# Altium schematic symbol library HamedLib.SchLib: 116 symbols
Pins are listed as number, name and electrical type; pins without a type are passive.

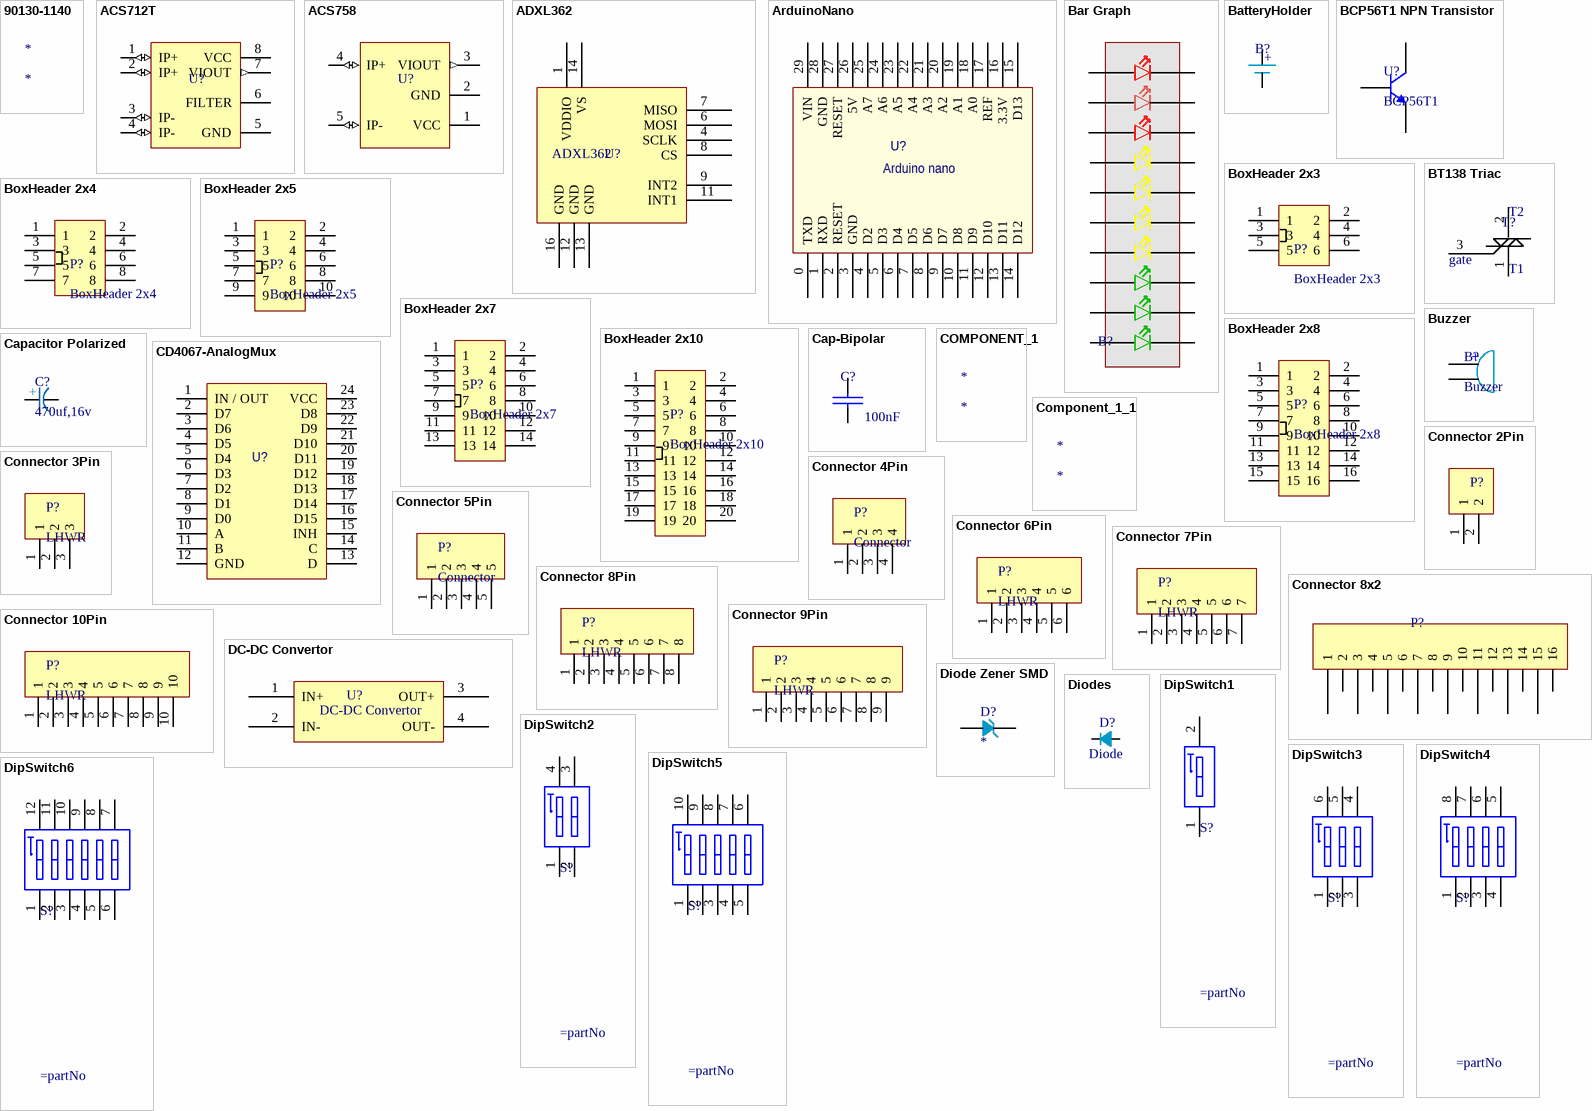
[diagram p0: symbols 90130-1140 to DipSwitch6]

## 90130-1140
designator *
Board Connector, 40 Contact(s), 2 Row(s), Male, Straight, 0.1 inch Pitch, Solder Terminal, Locking, Black Insulator, Receptacle; Manufacturer: Molex; Manufacturer Part Number: 90130-1140; Manufacturer Series: 90130; Option: General Purpose; Filter Feature: No; Number of Contacts: 40; Contact Pattern: RECTANGULAR; Dielectric Withstanding Voltage (AC): 700V; Insulation Resistance: 5GR; Number Of Connectors: 1; Number Of PCB Rows: 2; Rated Current (Signal): 3A; Contact Resistance: 20mR; Durability: 500Cycles; Contact Style: SQ PIN-SKT; Insertion Force-Max: 3.0024N; Body Breadth: 0.384inch; Body Depth: 0.515inch; PCB Contact Row Spacing: 2.54mm; Plating Thickness: 118uin; Body Length: 2.092inch; Reference Standard: UL; Reliability: COMMERCIAL; Supplier: Mouser; Supplier Part Number: 538-90130-1140; RoHS: Yes; Category: Headers and Wire Housings; Stock: 1491; Pricing: 1=3.06, 10=2.61, 50=2.28, 100=2.28, 1000=2.28, 10000=2.28 (USD); Mounting Technology: Board; Contact Finish - Mating: NOT SPECIFIED; Contact Material: Copper Alloy; Insulation Material: Glass; Insulation Color: Black; Min Operating Temperature: -55°C; Max Operating Temperature: 125°C; Connector Type: BOARD CONNECTOR; Contact Gender: Male; Mixed Contacts: No; Termination: Solder; Mounting Style: STRAIGHT; Number of Rows Loaded: 2; PCB Contact Pattern: RECTANGULAR; Body/Shell Style: RECEPTACLE; Mating Contact Pitch: 0.1inch; Terminal Pitch: 2.54mm; Mounting Option 1: LOCKING; Mating Contact Row Spacing: 0.1inch; Terminal Length: 0.114inch; Flammability Rating: UL94 V-0; DIN Conformance: No; IEC Conformance: No; MIL Conformance: No; Reach SVHC Compliant: Yes; RoHS Compliant: Yes; ComponentLink1URL: https://datasheet.ciiva.com:443/pdfs/VipMasterIC/IC/MOLE/MOLE-S-A0001360181/MOLE-S-A0001366101-1.pdf?src-supplier=IHS+Markit; ComponentLink1Description: https://datasheet.ciiva.com:443/pdfs/VipMasterIC/IC/MOLE/MOLE-S-A0001360181/MOLE-S-A0001366101-1.pdf?src-supplier=IHS+Markit; ComponentLink2URL: https://datasheet.ciiva.com/712/901301108-sd-712105.pdf?src-supplier=Digikey; ComponentLink2Description: https://datasheet.ciiva.com/712/901301108-sd-712105.pdf?src-supplier=Digikey; ComponentLink3URL: https://datasheet.ciiva.com/5155/0901301140-pcb-headers-151559-5155813.pdf?src-supplier=Mouser; ComponentLink3Description: https://datasheet.ciiva.com/5155/0901301140-pcb-headers-151559-5155813.pdf?src-supplier=Mouser; ComponentLink4URL: https://datasheet.ciiva.com/11752/0900766b80d6024d-11752755.pdf?src-supplier=Rs; ComponentLink4Description: https://datasheet.ciiva.com/11752/0900766b80d6024d-11752755.pdf?src-supplier=Rs; ComponentLink5URL: https://datasheet.ciiva.com/30129/0901301140-pcb-headers-30129574.pdf?src-supplier=Onlinecomponents.com; ComponentLink5Description: https://datasheet.ciiva.com/30129/0901301140-pcb-headers-30129574.pdf?src-supplier=Onlinecomponents.com; ComponentLink6URL: https://datasheet.ciiva.com/10072/0901301140-pcb-headers-10072277.pdf?src-supplier=Avnet; ComponentLink6Description: https://datasheet.ciiva.com/10072/0901301140-pcb-headers-10072277.pdf?src-supplier=Avnet

## ACS712T
designator U?  (value not drawn)
High-Precision Bidirectional Current sensor; Designer:: Hamed Jafarzadeh
footprint SOIC-8
pins: 1 IP+ (io) "Terminals for current being sampled; fused internally", 2 IP+ (io) "Terminals for current being sampled; fused internally", 3 IP- (io) "Terminals for current being sampled; fused internally", 4 IP- (io) "Terminals for current being sampled; fused internally", 5 GND (power) "Signal ground terminal", 6 FILTER "Terminal for external capacitor that sets bandwidth", 7 VIOUT (out) "Analog output signal", 8 VCC (power) "Device power supply terminal"

## ACS758
designator U?  (value not drawn)
High-Precision Bidirectional Current sensor; Designer:: Hamed Jafarzadeh
footprint ACS758
pins: 1 VCC (power) "Device power supply terminal", 2 GND (power) "Signal ground terminal", 3 VIOUT (out) "Analog output signal", 4 IP+ (io) "Terminals for current being sampled; fused internally", 5 IP- (io) "Terminals for current being sampled; fused internally"

## ADXL362
designator U?  (value not drawn)
footprint ADXL362
pins: 1 VDDIO, 4 SCLK, 6 MOSI, 7 MISO, 8 CS, 9 INT2, 11 INT1, 12 GND, 13 GND, 14 VS, 16 GND

## ArduinoNano
designator U?  (value not drawn)
footprint ArduinoNano
pins: 0 TXD, 1 RXD, 2 RESET, 3 GND, 4 D2, 5 D3, 6 D4, 7 D5, 8 D6, 9 D7, 10 D8, 11 D9, 12 D10, 13 D11, 14 D12, 15 D13, 16 3.3V, 17 REF, 18 A0, 19 A1, 20 A2, 21 A3, 22 A4, 23 A5, 24 A6, 25 A7, 26 5V, 27 RESET, 28 GND, 29 VIN
text: Arduino nano

## Bar Graph
designator B?  (value not drawn)
Designer: Farhoosh-Co.ir
footprint BarGraph (Bar Grph LED)
pins: 1, 2, 3, 4, 5, 6, 7, 8, 9, 10, 11, 12, 13, 14, 15, 16, 17, 18, 19, 20

## BatteryHolder
designator B?  (value not drawn)
footprint Battery Holder 2032
footprint Battery Holder CR1220-SMD
pins: 1, 2
text: +

## BCP56T1 NPN Transistor
designator U?, comment BCP56T1
footprint BCP56T1-SOT223
pins: 1 B, 2 C, 3 E

## BoxHeader 2x3
designator P?
Designer: HamedJafarzadeh - ww.R2T.ir
footprint Box Header 2x3
pins: 1, 2, 3, 4, 5, 6

## BoxHeader 2x4
designator P?
Designer: HamedJafarzadeh - ww.R2T.ir
footprint Box Header 2x4
pins: 1, 2, 3, 4, 5, 6, 7, 8

## BoxHeader 2x5
designator P?
Designer: HamedJafarzadeh - ww.R2T.ir
footprint Box Header 2x5
pins: 1, 2, 3, 4, 5, 6, 7, 8, 9, 10

## BoxHeader 2x7
designator P?
Designer: HamedJafarzadeh - ww.R2T.ir
footprint Box Header 2x7
pins: 1, 2, 3, 4, 5, 6, 7, 8, 9, 10, 11, 12, 13, 14

## BoxHeader 2x8
designator P?
Designer: HamedJafarzadeh - ww.R2T.ir
footprint Box Header 2x8
pins: 1, 2, 3, 4, 5, 6, 7, 8, 9, 10, 11, 12, 13, 14, 15, 16

## BoxHeader 2x10
designator P?
Designer: HamedJafarzadeh - ww.R2T.ir
footprint Box Header 2x10
pins: 1, 2, 3, 4, 5, 6, 7, 8, 9, 10, 11, 12, 13, 14, 15, 16, 17, 18, 19, 20

## BT138 Triac
designator T?  (value not drawn)
footprint BT138
pins: 1 T1, 2 T2, 3 GND
text: gate

## Buzzer
designator B?
Designer: Hamed Jafarzadeh
footprint Buzzer (Magnetic Transducer)
pins: 1 VCC, 2 GND
text: +

## Cap-Bipolar
designator C?, comment 100nF
Bipolar Capacitor; Voltage: 100V; Designer: Saeid Jorablo; Organazation: ControTec; Adding Date: 1387/12/20; Value: 100nF
footprint SMD_CAP_0603
footprint SMD_CAP_0805
footprint SMD_CAP_1206
pins: 1 +, 2 -

## Capacitor Polarized
designator C?, comment 470uf,16v
Designer: Hamed Jafarzadeh
footprint Electrolytic Capacitor SMD Dia-8 (470uf,6.3v,16v)
footprint Electrolytic Capacitor SMD Dia-8 - 100uf (100uf,6.3v,16v)
footprint Electrolytic Capacitor (5Rx5.3 - SMD C)
footprint Tantalum Cap Size D - 2917 (Tantalum 10uf,35v)
footprint Tantalum Cap Size A - 1206
footprint Tantalum Cap Size C - 2312
footprint Tantalum CAP Size E - 2917
footprint Tantalum Cap Size B - 1210
footprint WCAP-PSHP 8x7.7x3.1 (Polarized capacitors, Aluminum Polymer Capacitors, 2-Leads, Body 8x7.7x3.1)
footprint WCAP-PSHP 8x8.7x3.1 (Polarized capacitors, Aluminum Polymer Capacitors, 2-Leads, Body 8x8.7x3.1)
footprint WCAP-PSHP 10x8.7x4.5 (Polarized capacitors, Aluminum Polymer Capacitors, 2-Leads, Body 10x8.7x4.5)
footprint WCAP-PSHP 10x10.5x4.5 (Polarized capacitors, Aluminum Polymer Capacitors, 2-Leads, Body 10x10.5x4.5)
footprint CAPE R2.25 Flat
footprint CAPE R3.5
footprint CAPE R3.5 Flat
footprint CAPE R5.0
footprint CAPE R16.00 HV
footprint CAPE R18.00 HV
footprint CAP ALSMD 5.3MM H5.4MM (Aluminum Electrolytic Capacitor, Body 5.30x5.30x5.40mm, IPC Low Density)
pins: 1, 2
text: +

## CD4067-AnalogMux
designator U?  (value not drawn)
footprint CD474HC4067
footprint SOP65P640X120-24N
pins: 1 IN / OUT, 2 D7, 3 D6, 4 D5, 5 D4, 6 D3, 7 D2, 8 D1, 9 D0, 10 A, 11 B, 12 GND, 13 D, 14 C, 15 INH, 16 D15, 17 D14, 18 D13, 19 D12, 20 D11, 21 D10, 22 D9, 23 D8, 24 VCC

## COMPONENT_1
designator *

## Component_1_1
designator *

## Connector 2Pin
designator P?, comment Connector  (value not drawn)
Designer:: Hamed Jafarzadeh - www.R2T.ir
footprint Polarized Header 2
footprint Terminal Block 2pin
footprint Phoenix 2pin ST (-)
footprint PH Connector 2Pin
footprint KF350-2p (-)
pins: 1, 2

## Connector 3Pin
designator P?, comment LHWR
Designer:: Hamed Jafarzadeh - www.R2T.ir
footprint Polarized Header 3
footprint Terminal Block 3Pin
footprint Phoenix 3pin ST (-)
footprint PH Connector 3Pin
footprint KF350-3p (-)
pins: 1, 2, 3

## Connector 4Pin
designator P?, comment Connector
Designer:: Hamed Jafarzadeh - www.R2T.ir
footprint Polarized Header 4
footprint Phoenix 4pin ST (-)
footprint PH 4A Connector
pins: 1, 2, 3, 4

## Connector 5Pin
designator P?, comment Connector
Designer:: Hamed Jafarzadeh - www.R2T.ir
footprint Polarized Header 5
footprint Phoenix 5pin ST (-)
footprint PH Connector 5Pin
pins: 1, 2, 3, 4, 5

## Connector 6Pin
designator P?, comment LHWR
Designer:: Hamed Jafarzadeh - www.R2T.ir
footprint Polarized Header 6
footprint PH Connector 6Pin
pins: 1, 2, 3, 4, 5, 6

## Connector 7Pin
designator P?, comment LHWR
Designer:: Hamed Jafarzadeh - www.R2T.ir
footprint Polarized Header 7
footprint PH Connector 7Pin
pins: 1, 2, 3, 4, 5, 6, 7

## Connector 8Pin
designator P?, comment LHWR
Designer:: Hamed Jafarzadeh - www.R2T.ir
footprint PH Connector 8Pin (Male Vertical Shrouded Header - 08p 1 row)
footprint Phoenix 8 Pin ST (-)
pins: 1, 2, 3, 4, 5, 6, 7, 8

## Connector 8x2
designator P?  (value not drawn)
footprint Connector ATX 16pin 4.2MM Pitch
pins: 1, 2, 3, 4, 5, 6, 7, 8, 9, 10, 11, 12, 13, 14, 15, 16

## Connector 9Pin
designator P?, comment LHWR
Designer:: Hamed Jafarzadeh - www.R2T.ir
footprint PH Connector 9Pin (Male Vertical Shrouded Header - 09p 1 row)
pins: 1, 2, 3, 4, 5, 6, 7, 8, 9

## Connector 10Pin
designator P?, comment LHWR
Designer:: Hamed Jafarzadeh - www.R2T.ir
footprint PH Connector 10Pin (Male Vertical Shrouded Header - 10p 1 row)
pins: 1, 2, 3, 4, 5, 6, 7, 8, 9, 10

## DC-DC Convertor
designator U?  (value not drawn)
footprint DC-DC 12A
pins: 1 IN+, 2 IN-, 3 OUT+, 4 OUT-

## Diode Zener SMD
designator D?
Designer: Hamed Jafarzadeh
footprint DIOMELF3615N (MELF Diode, 2-Leads, Body 3.6x1.5mm, IPC Medium Density)
footprint Diode Zener 1W SMD-SOD106 (MELF Diode, 2-Leads, Body 3.6x1.5mm, IPC Medium Density)
pins: 1, 2

## Diodes
designator D?  Description:: Diode  (hidden comment: *)
Designer :: Hamed Jafarzadeh
footprint DO-214AC ( SMD Diode )
footprint SMB-CASE 403-A03 (Molded Diode,MURS120T)
footprint DO-201 (1n5822 Through Hole)
footprint DO-201 Vertical (1n5822 Through Hole)
pins: 0, 1

## DipSwitch1
designator S?
WS-DITV 2.54 mm compact THT with flat actuator; Manufacturer: Wurth Elektronik; Part No.: 418117170901; ComponentLink1 Description: Manufacturer; ComponentLink2 Description: Datasheet; Pole: 01; Created Date: Dec.2015; ComponentLink1URL: http://www.we-online.com; ComponentLink2URL: http://katalog.we-online.de/em/datasheet/4181171709xx.pdf; Created by: Baojun Chen
footprint 418117170901 (01p, 2.54mm Pitch, Horizontal, Box Type, THT, flat Actuator, red, without Tape, Tube)
pins: 1, 2

## DipSwitch2
designator S?
WS-DITV 2.54 mm compact THT with flat actuator; Manufacturer: Wurth Elektronik; Part No.: 418117170902; ComponentLink1 Description: Manufacturer; ComponentLink2 Description: Datasheet; Pole: 02; Created Date: Dec.2015; ComponentLink1URL: http://www.we-online.com; ComponentLink2URL: http://katalog.we-online.de/em/datasheet/4181171709xx.pdf; Created by: Baojun Chen
footprint 418117170902 (02p, 2.54mm Pitch, Horizontal, Box Type, THT, flat Actuator, red, without Tape, Tube)
pins: 1, 2, 3, 4

## DipSwitch3
designator S?
WS-DITV 2.54 mm compact THT with flat actuator; Manufacturer: Wurth Elektronik; Part No.: 418117170903; ComponentLink1 Description: Manufacturer; ComponentLink2 Description: Datasheet; Pole: 03; Created Date: Dec.2015; ComponentLink1URL: http://www.we-online.com; ComponentLink2URL: http://katalog.we-online.de/em/datasheet/4181171709xx.pdf; Created by: Baojun Chen
footprint 418117170903 (03p, 2.54mm Pitch, Horizontal, Box Type, THT, flat Actuator, red, without Tape, Tube)
pins: 1, 2, 3, 4, 5, 6

## DipSwitch4
designator S?
WS-DITV 2.54 mm compact THT with flat actuator; Manufacturer: Wurth Elektronik; Part No.: 418117170904; ComponentLink1 Description: Manufacturer; ComponentLink2 Description: Datasheet; Pole: 04; Created Date: Dec.2015; ComponentLink1URL: http://www.we-online.com; ComponentLink2URL: http://katalog.we-online.de/em/datasheet/4181171709xx.pdf; Created by: Baojun Chen
footprint 418117170904 (04p, 2.54mm Pitch, Horizontal, Box Type, THT, flat Actuator, red, without Tape, Tube)
pins: 1, 2, 3, 4, 5, 6, 7, 8

## DipSwitch5
designator S?
WS-DITV 2.54 mm compact THT with flat actuator; Manufacturer: Wurth Elektronik; Part No.: 418117170905; ComponentLink1 Description: Manufacturer; ComponentLink2 Description: Datasheet; Pole: 05; Created Date: Dec.2015; ComponentLink1URL: http://www.we-online.com; ComponentLink2URL: http://katalog.we-online.de/em/datasheet/4181171709xx.pdf; Created by: Baojun Chen
footprint 418117170905 (05p, 2.54mm Pitch, Horizontal, Box Type, THT, flat Actuator, red, without Tape, Tube)
pins: 1, 2, 3, 4, 5, 6, 7, 8, 9, 10

## DipSwitch6
designator S?
WS-DITV 2.54 mm compact THT with flat actuator; Manufacturer: Wurth Elektronik; Part No.: 418117170906; ComponentLink1 Description: Manufacturer; ComponentLink2 Description: Datasheet; Pole: 06; Created Date: Dec.2015; ComponentLink1URL: http://www.we-online.com; ComponentLink2URL: http://katalog.we-online.de/em/datasheet/4181171709xx.pdf; Created by: Baojun Chen
footprint 418117170906 (06p, 2.54mm Pitch, Horizontal, Box Type, THT, flat Actuator, red, without Tape, Tube)
pins: 1, 2, 3, 4, 5, 6, 7, 8, 9, 10, 11, 12

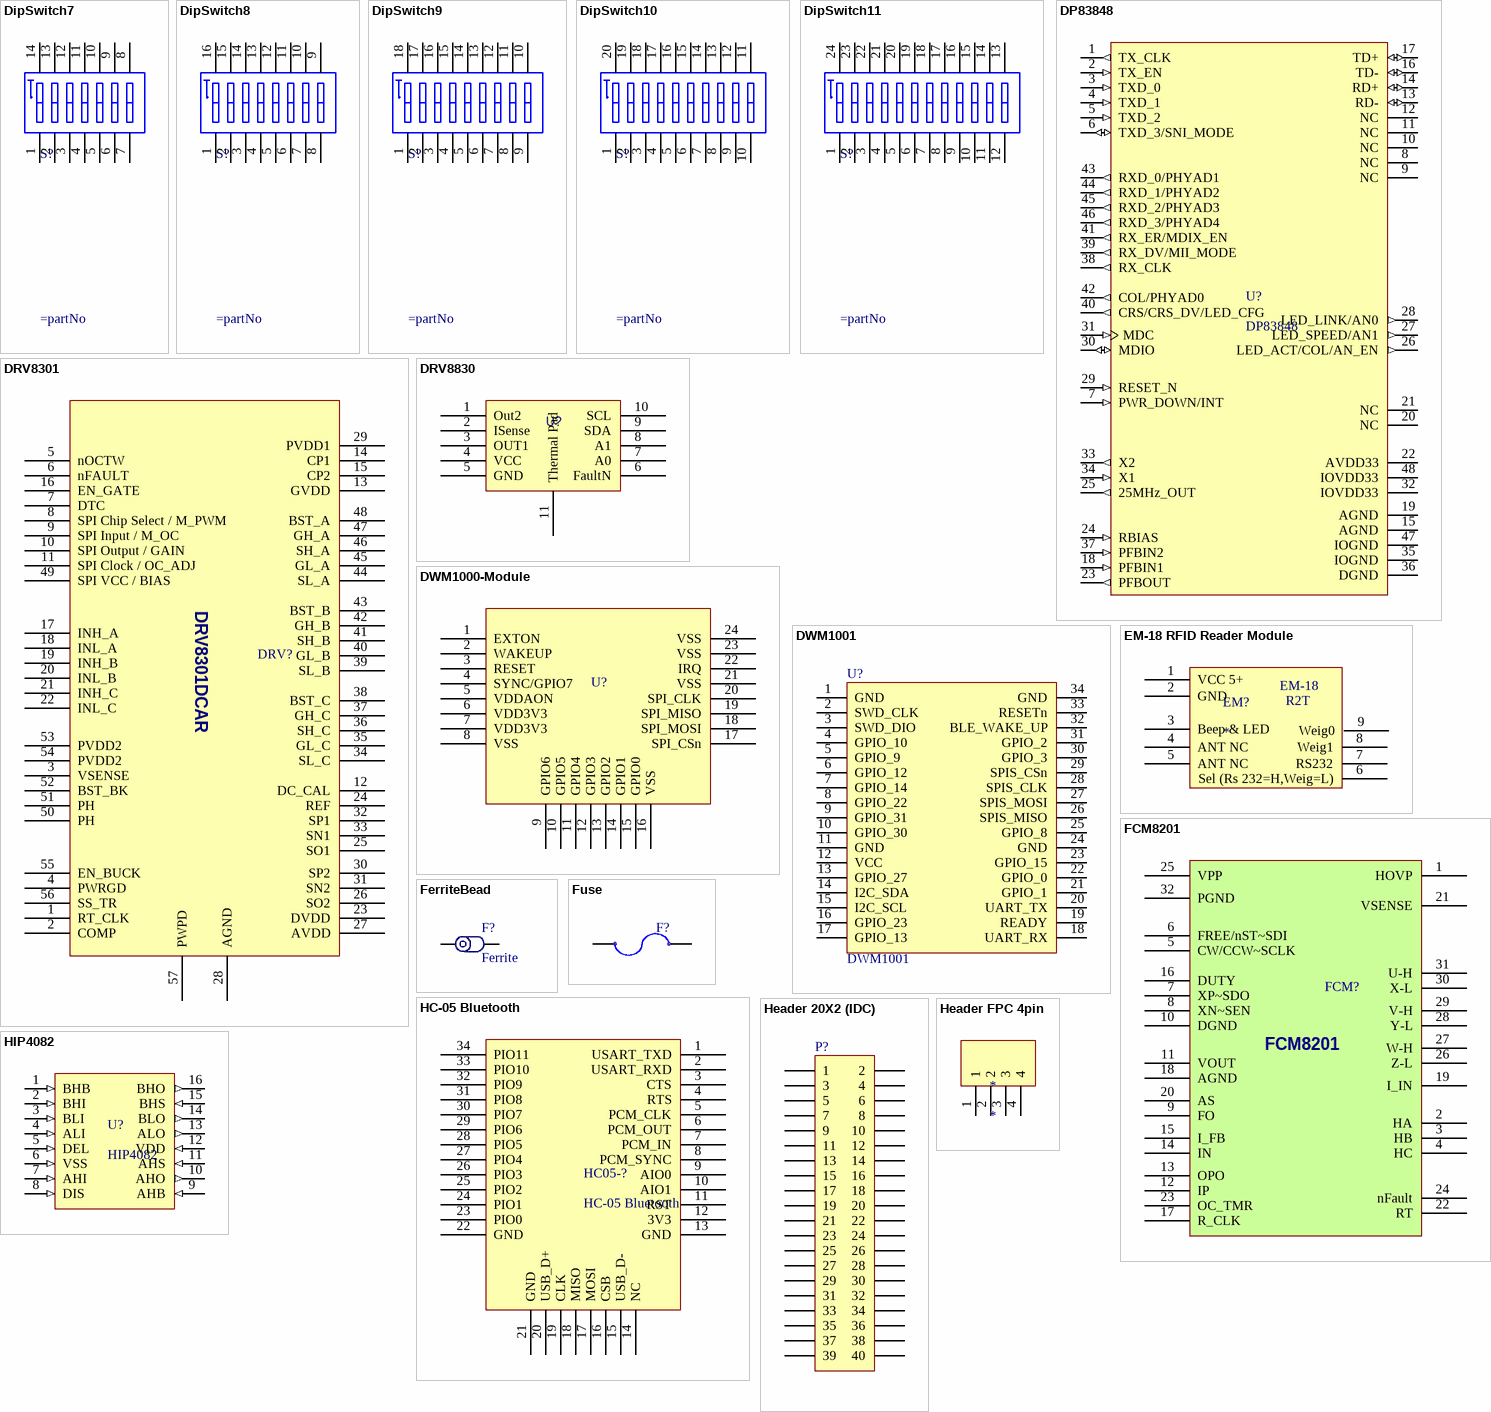
[diagram p1: symbols DipSwitch7 to HIP4082]

## DipSwitch7
designator S?
WS-DITV 2.54 mm compact THT with flat actuator; Manufacturer: Wurth Elektronik; Part No.: 418117170907; ComponentLink1 Description: Manufacturer; ComponentLink2 Description: Datasheet; Pole: 07; Created Date: Dec.2015; ComponentLink1URL: http://www.we-online.com; ComponentLink2URL: http://katalog.we-online.de/em/datasheet/4181171709xx.pdf; Created by: Baojun Chen
footprint 418117170907 (07p, 2.54mm Pitch, Horizontal, Box Type, THT, flat Actuator, red, without Tape, Tube)
pins: 1, 2, 3, 4, 5, 6, 7, 8, 9, 10, 11, 12, 13, 14

## DipSwitch8
designator S?
WS-DITV 2.54 mm compact THT with flat actuator; Manufacturer: Wurth Elektronik; Part No.: 418117170908; ComponentLink1 Description: Manufacturer; ComponentLink2 Description: Datasheet; Pole: 08; Created Date: Dec.2015; ComponentLink1URL: http://www.we-online.com; ComponentLink2URL: http://katalog.we-online.de/em/datasheet/4181171709xx.pdf; Created by: Baojun Chen
footprint 418117170908 (08p, 2.54mm Pitch, Horizontal, Box Type, THT, flat Actuator, red, without Tape, Tube)
pins: 1, 2, 3, 4, 5, 6, 7, 8, 9, 10, 11, 12, 13, 14, 15, 16

## DipSwitch9
designator S?
WS-DITV 2.54 mm compact THT with flat actuator; Manufacturer: Wurth Elektronik; Part No.: 418117170909; ComponentLink1 Description: Manufacturer; ComponentLink2 Description: Datasheet; Pole: 09; Created Date: Dec.2015; ComponentLink1URL: http://www.we-online.com; ComponentLink2URL: http://katalog.we-online.de/em/datasheet/4181171709xx.pdf; Created by: Baojun Chen
footprint 418117170909 (09p, 2.54mm Pitch, Horizontal, Box Type, THT, flat Actuator, red, without Tape, Tube)
pins: 1, 2, 3, 4, 5, 6, 7, 8, 9, 10, 11, 12, 13, 14, 15, 16, 17, 18

## DipSwitch10
designator S?
WS-DITV 2.54 mm compact THT with flat actuator; Manufacturer: Wurth Elektronik; Part No.: 418117170910; ComponentLink1 Description: Manufacturer; ComponentLink2 Description: Datasheet; Pole: 10; Created Date: Dec.2015; ComponentLink1URL: http://www.we-online.com; ComponentLink2URL: http://katalog.we-online.de/em/datasheet/4181171709xx.pdf; Created by: Baojun Chen
footprint 418117170910 (10p, 2.54mm Pitch, Horizontal, Box Type, THT, flat Actuator, red, without Tape, Tube)
pins: 1, 2, 3, 4, 5, 6, 7, 8, 9, 10, 11, 12, 13, 14, 15, 16, 17, 18, 19, 20

## DipSwitch11
designator S?
WS-DITV 2.54 mm compact THT with flat actuator; Manufacturer: Wurth Elektronik; Part No.: 418117170912; ComponentLink1 Description: Manufacturer; ComponentLink2 Description: Datasheet; Pole: 12; Created Date: Dec.2015; ComponentLink1URL: http://www.we-online.com; ComponentLink2URL: http://katalog.we-online.de/em/datasheet/4181171709xx.pdf; Created by: Baojun Chen
footprint 418117170912 (12p, 2.54mm Pitch, Horizontal, Box Type, THT, flat Actuator, red, without Tape, Tube)
pins: 1, 2, 3, 4, 5, 6, 7, 8, 9, 10, 11, 12, 13, 14, 15, 16, 17, 18, 19, 20, 21, 22, 23, 24

## DP83848
designator U?
Designer:: Hamed Jafarzadeh
footprint DP83848_LQFP48 (Thin QFP, 48-Leads, Body 7x7mm, Pitch 0.5mm, IPC Medium Density)
pins: 1 TX_CLK (out), 2 TX_EN (in), 3 TXD_0 (in), 4 TXD_1 (in), 5 TXD_2 (in), 6 TXD_3/SNI_MODE (io), 7 PWR_DOWN/INT (in), 8 NC (oc), 9 NC (oc), 10 NC (oc), 11 NC (oc), 12 NC (oc), 13 RD- (io), 14 RD+ (io), 15 AGND (power), 16 TD- (io), 17 TD+ (io), 18 PFBIN1 (in), 19 AGND (power), 20 NC (oc), 21 NC (oc), 22 AVDD33 (power), 23 PFBOUT (out), 24 RBIAS (in), 25 25MHz_OUT (out), 26 LED_ACT/COL/AN_EN (out), 27 LED_SPEED/AN1 (out), 28 LED_LINK/AN0 (out), 29 RESET_N (in), 30 MDIO (io), 31 MDC (in), 32 IOVDD33 (power), 33 X2 (out), 34 X1 (in), 35 IOGND (power), 36 DGND (power), 37 PFBIN2 (in), 38 RX_CLK (out), 39 RX_DV/MII_MODE (out), 40 CRS/CRS_DV/LED_CFG (out), 41 RX_ER/MDIX_EN (out), 42 COL/PHYAD0 (out), 43 RXD_0/PHYAD1 (out), 44 RXD_1/PHYAD2 (out), 45 RXD_2/PHYAD3 (out), 46 RXD_3/PHYAD4 (out), 47 IOGND (power), 48 IOVDD33 (power)

## DRV8301
designator DRV?  (value not drawn)
Three Phase Brushless Pre-Driver; Design By: Hamed Jafarzadeh - WWW.R2T.IR
footprint TSSOP50P810X120_HS-57N (TSSOP, 56-Leads, Body 14.00x6.10mm, Pitch 0.50mm, Thermal Pad 6.35.2x3.61.2mm, IPC Medium Density)
pins: 1 RT_CLK, 2 COMP, 3 VSENSE, 4 PWRGD, 5 nOCTW, 6 nFAULT, 7 DTC, 8 SPI Chip Select / M_PWM, 9 SPI Input / M_OC, 10 SPI Output / GAIN, 11 SPI Clock / OC_ADJ, 12 DC_CAL, 13 GVDD, 14 CP1, 15 CP2, 16 EN_GATE, 17 INH_A, 18 INL_A, 19 INH_B, 20 INL_B, 21 INH_C, 22 INL_C, 23 DVDD, 24 REF, 25 SO1, 26 SO2, 27 AVDD, 28 AGND, 29 PVDD1, 30 SP2, 31 SN2, 32 SP1, 33 SN1, 34 SL_C, 35 GL_C, 36 SH_C, 37 GH_C, 38 BST_C, 39 SL_B, 40 GL_B, 41 SH_B, 42 GH_B, 43 BST_B, 44 SL_A, 45 GL_A, 46 SH_A, 47 GH_A, 48 BST_A, 49 SPI VCC / BIAS, 50 PH, 51 PH, 52 BST_BK, 53 PVDD2, 54 PVDD2, 55 EN_BUCK, 56 SS_TR, 57 PWPD
text: DRV8301DCAR

## DRV8830
designator U?  (value not drawn)
footprint DRV8830 - TSSOP 10 - HVSSOP (TSSOP, 10-Leads, Body 3.00x3.00mm, Pitch 0.50mm, Thermal Pad 2.10x1.83mm, IPC Medium Density)
pins: 1 Out2, 2 ISense, 3 OUT1, 4 VCC, 5 GND, 6 FaultN, 7 A0, 8 A1, 9 SDA, 10 SCL, 11 Thermal Pad

## DWM1000-Module
designator U?, comment DWM1000  (value not drawn)
footprint DWM1000-Module
pins: 1 EXTON, 2 WAKEUP, 3 RESET, 4 SYNC/GPIO7, 5 VDDAON, 6 VDD3V3, 7 VDD3V3, 8 VSS, 9 GPIO6, 10 GPIO5, 11 GPIO4, 12 GPIO3, 13 GPIO2, 14 GPIO1, 15 GPIO0, 16 VSS, 17 SPI_CSn, 18 SPI_MOSI, 19 SPI_MISO, 20 SPI_CLK, 21 VSS, 22 IRQ, 23 VSS, 24 VSS

## DWM1001
designator U?
footprint DWM1001 (DWM1001 MODULE)
pins: 1 GND, 2 SWD_CLK, 3 SWD_DIO, 4 GPIO_10, 5 GPIO_9, 6 GPIO_12, 7 GPIO_14, 8 GPIO_22, 9 GPIO_31, 10 GPIO_30, 11 GND, 12 VCC, 13 GPIO_27, 14 I2C_SDA, 15 I2C_SCL, 16 GPIO_23, 17 GPIO_13, 18 UART_RX, 19 READY, 20 UART_TX, 21 GPIO_1, 22 GPIO_0, 23 GPIO_15, 24 GND, 25 GPIO_8, 26 SPIS_MISO, 27 SPIS_MOSI, 28 SPIS_CLK, 29 SPIS_CSn, 30 GPIO_3, 31 GPIO_2, 32 BLE_WAKE_UP, 33 RESETn, 34 GND

## EM-18 RFID Reader Module
designator EM?
Designer: HamedJafarzadeh - info@r2t.ir
footprint EM-18 Reader Module
pins: 1 VCC 5+, 2 GND, 3 Beep & LED, 4 ANT NC, 5 ANT NC, 6 Sel (Rs 232=H,Weig=L), 7 RS232, 8 Weig1, 9 Weig0
text: EM-18; R2T

## FCM8201
designator FCM?  (value not drawn)
3-Phase Sinusoidal Brushless DC Motor Controller; Desginer: Hamed Jafarzadeh - WWW.R2T.IR
footprint LQFP 32Pin (Low Profile 32pin Quad FLat Pack Package)
pins: 1 HOVP, 2 HA, 3 HB, 4 HC, 5 CW/CCW~SCLK, 6 FREE/nST~SDI, 7 XP~SDO, 8 XN~SEN, 9 FO "Revoulution Pulse Output", 10 DGND, 11 VOUT, 12 IP, 13 OPO, 14 IN, 15 I_FB, 16 DUTY, 17 R_CLK, 18 AGND, 19 I_IN, 20 AS, 21 VSENSE, 22 RT, 23 OC_TMR, 24 nFault, 25 VPP, 26 Z-L, 27 W-H, 28 Y-L, 29 V-H, 30 X-L, 31 U-H, 32 PGND

## FerriteBead
designator F?, comment Ferrite
Designer:: Hamed Jafarzadeh - hjafarzadeh511@gmail.com
footprint INDChip_0805
pins: 1, 2

## Fuse
designator F?  (value not drawn)
Designer :: Hamed Jafarzadeh
footprint Fuse 5x20MM
pins: 1, 2

## HC-05 Bluetooth
designator HC05-?
footprint HC-05
pins: 1 USART_TXD, 2 USART_RXD, 3 CTS, 4 RTS, 5 PCM_CLK, 6 PCM_OUT, 7 PCM_IN, 8 PCM_SYNC, 9 AIO0, 10 AIO1, 11 RST, 12 3V3, 13 GND, 14 NC, 15 USB_D-, 16 CSB, 17 MOSI, 18 MISO, 19 CLK, 20 USB_D+, 21 GND, 22 GND, 23 PIO0, 24 PIO1, 25 PIO2, 26 PIO3, 27 PIO4, 28 PIO5, 29 PIO6, 30 PIO7, 31 PIO8, 32 PIO9, 33 PIO10, 34 PIO11

## Header 20X2 (IDC)
designator P?
Header, 20-Pin, Dual row; LatestRevisionDate: 17-Jul-2002; LatestRevisionNote: Re-released for DXP Platform.; Publisher: Altium Limited; Supplier 1: Mouser; Supplier Part Number 1: 538-90130-1140
signal-integrity model Connector
footprint FP-90130-1140-MFG
footprint FP-90130-3140-MFG
pins: 1, 2, 3, 4, 5, 6, 7, 8, 9, 10, 11, 12, 13, 14, 15, 16, 17, 18, 19, 20, 21, 22, 23, 24, 25, 26, 27, 28, 29, 30, 31, 32, 33, 34, 35, 36, 37, 38, 39, 40

## Header FPC 4pin
designator *
footprint FPC,1mm,4way (FPC 1mm 4way AutoZif)
pins: 1, 2, 3, 4

## HIP4082
designator U?
footprint SOIC16-Hip4082
footprint DIP16-Hip4082
pins: 1 BHB (in), 2 BHI (in), 3 BLI (in), 4 ALI (in), 5 DEL (in), 6 VSS (in), 7 AHI (in), 8 DIS (in), 9 AHB (in), 10 AHO (out), 11 AHS (in), 12 VDD (in), 13 ALO (out), 14 BLO (out), 15 BHS (in), 16 BHO (out)

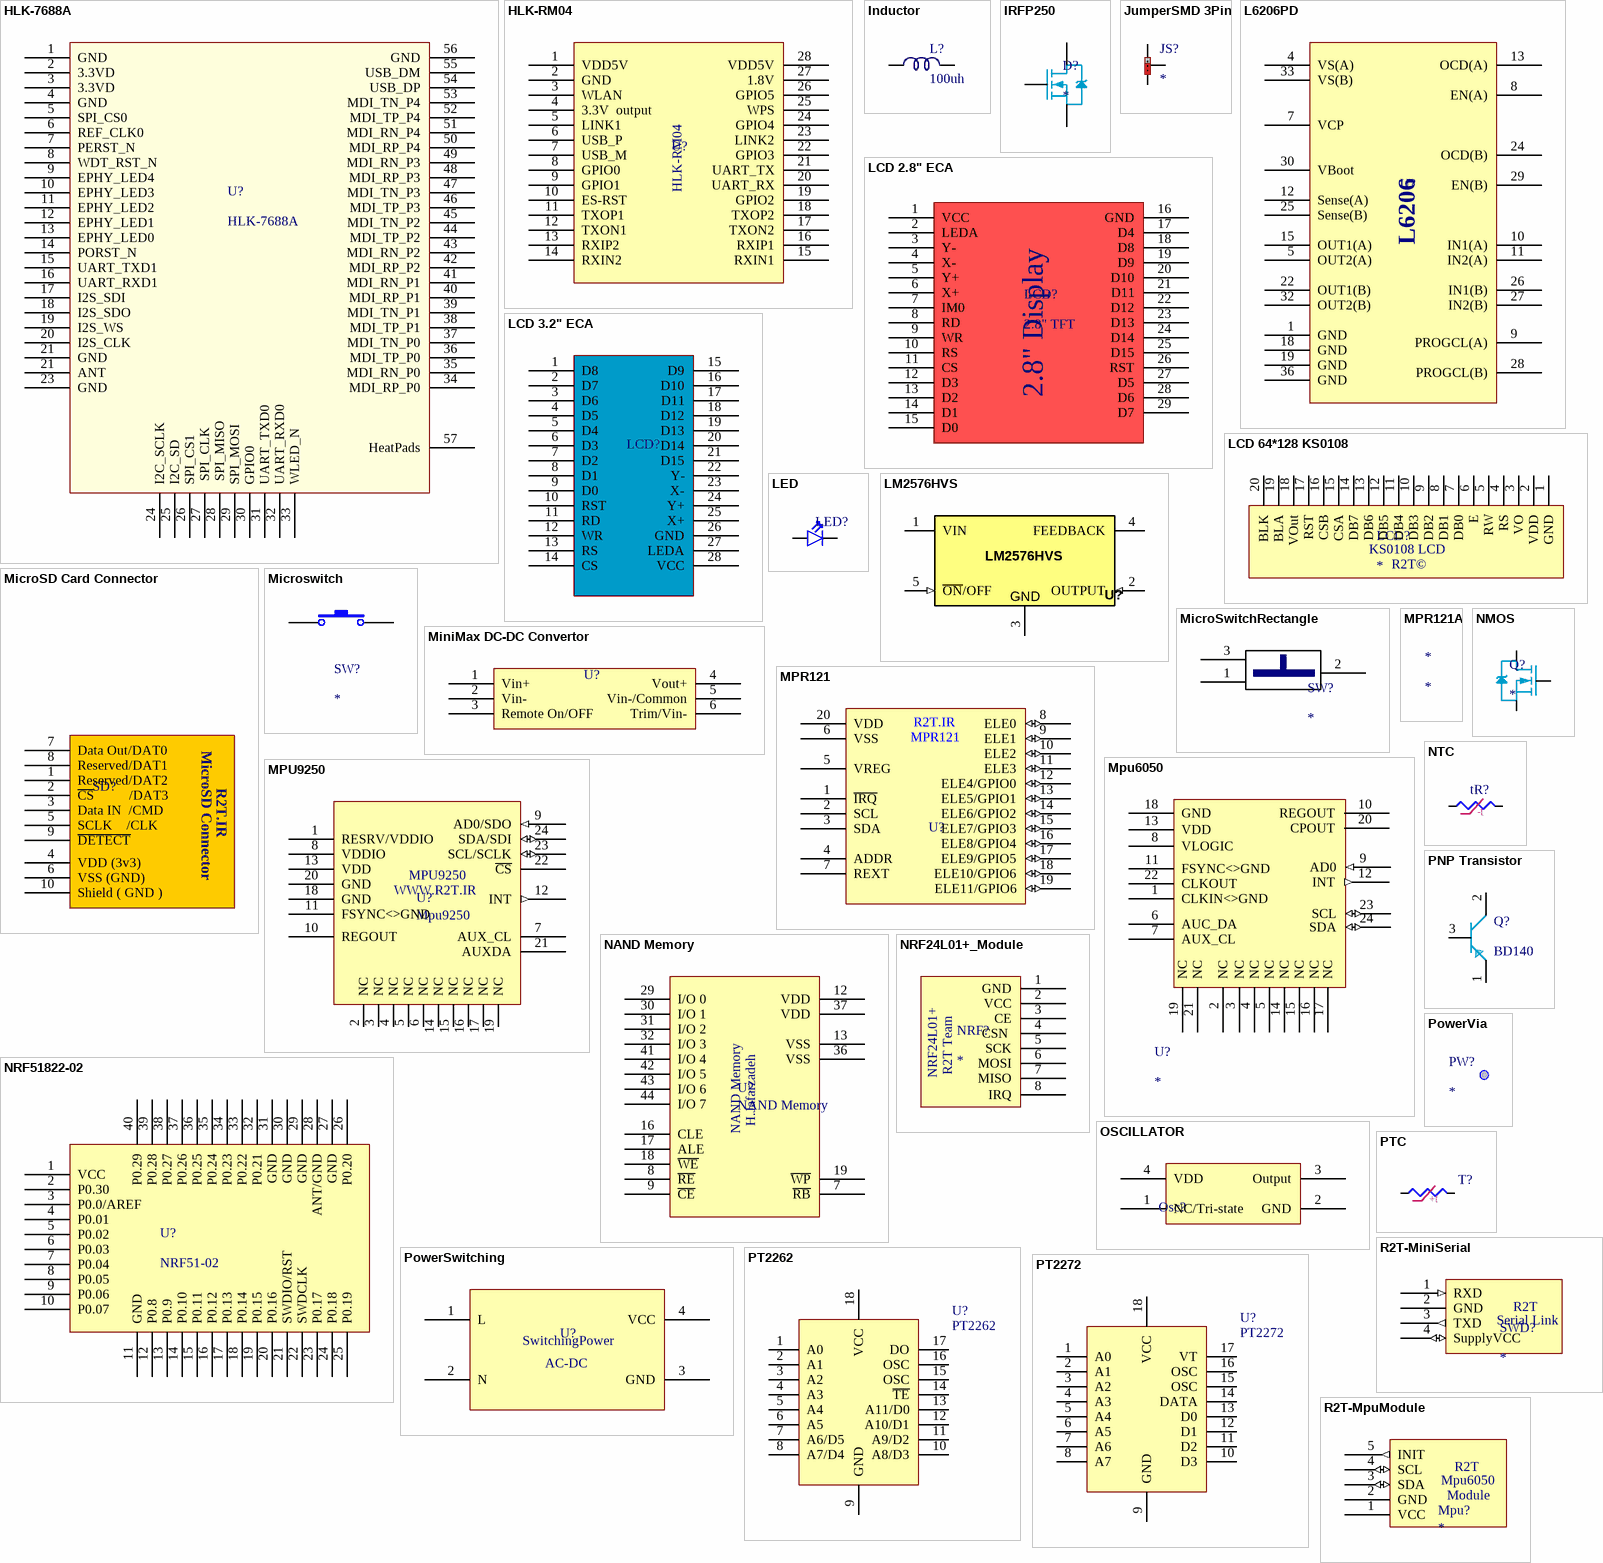
[diagram p2: symbols HLK-7688A to R2T-MpuModule]

## HLK-7688A
designator U?
footprint HLK-7688A
pins: 1 GND, 2 3.3VD, 3 3.3VD, 4 GND, 5 SPI_CS0, 6 REF_CLK0, 7 PERST_N, 8 WDT_RST_N, 9 EPHY_LED4, 10 EPHY_LED3, 11 EPHY_LED2, 12 EPHY_LED1, 13 EPHY_LED0, 14 PORST_N, 15 UART_TXD1, 16 UART_RXD1, 17 I2S_SDI, 18 I2S_SDO, 19 I2S_WS, 20 I2S_CLK, 21 GND, 21 ANT, 23 GND, 24 I2C_SCLK, 25 I2C_SD, 26 SPI_CS1, 27  SPI_CLK, 28  SPI_MISO, 29 SPI_MOSI, 30 GPIO0, 31 UART_TXD0, 32 UART_RXD0, 33 WLED_N, 34 MDI_RP_P0, 35 MDI_RN_P0, 36 MDI_TP_P0, 37 MDI_TN_P0, 38 MDI_TP_P1, 39 MDI_TN_P1, 40 MDI_RP_P1, 41 MDI_RN_P1, 42 MDI_RP_P2, 43 MDI_RN_P2, 44  MDI_TP_P2, 45 MDI_TN_P2, 46 MDI_TP_P3, 47 MDI_TN_P3, 48 MDI_RP_P3, 49 MDI_RN_P3, 50 MDI_RP_P4, 51  MDI_RN_P4, 52 MDI_TP_P4, 53 MDI_TN_P4, 54 USB_DP, 55 USB_DM, 56 GND, 57 HeatPads

## HLK-RM04
designator U?  (value not drawn)
footprint HLK-RM04
pins: 1 VDD5V, 2 GND, 3 WLAN, 4 3.3V  output, 5 LINK1 , 6 USB_P , 7 USB_M, 8 GPIO0, 9 GPIO1, 10 ES-RST, 11 TXOP1, 12 TXON1, 13 RXIP2, 14 RXIN2, 15 RXIN1, 16 RXIP1, 17 TXON2, 18 TXOP2, 19 GPIO2, 20 UART_RX, 21 UART_TX, 22 GPIO3, 23 LINK2, 24 GPIO4, 25 WPS, 26 GPIO5, 27 1.8V, 28 VDD5V

## Inductor
designator L?, comment 100uh
Designer:: Hamed Jafarzadeh - hjafarzadeh511@gmail.com
footprint General 10x12(200m) Inductor
footprint INDChip_0805
footprint INDChip_1206
footprint Toroidal Inductor 13mm
pins: 1, 2

## IRFP250
designator D?
Details:: 195 Watt - 30 A - 100v Mosfet
footprint TO-127 Bend Lead (TO-127 Bend Lead , Suitable for Power Hexfet Mosfets)
footprint TO-247
pins: 1 G, 2 D, 3 S

## JumperSMD 3Pin
designator JS?
footprint JumperSMD 3Pin
footprint JumperSMD 3Pin - UltraSmall
pins: 1, 2, 3

## L6206PD
designator U?  (value not drawn)
Designed By :: Hamed Jafarzadeh
footprint PowerSO36 (SOP, 36-Leads, Body 15.90x11.00mm, Pitch 0.65mm, Thermal Pad 9.80x6.20mm, IPC Medium Density)
pins: 1 GND, 4 VS(A), 5 OUT2(A), 7 VCP, 8 EN(A), 9 PROGCL(A), 10 IN1(A), 11 IN2(A), 12 Sense(A), 13 OCD(A), 15 OUT1(A), 18 GND, 19 GND, 22 OUT1(B), 24 OCD(B), 25 Sense(B), 26 IN1(B), 27 IN2(B), 28 PROGCL(B), 29 EN(B), 30 VBoot, 32 OUT2(B), 33 VS(B), 36 GND
text: L6206

## LCD 2.8" ECA
designator LCD?, comment 2.8" TFT
footprint LCD 2.8"
pins: 1 VCC, 2 LEDA, 3 Y-, 4 X-, 5 Y+, 6 X+, 7 IM0, 8 RD, 9 WR, 10 RS, 11 CS, 12 D3, 13 D2, 14 D1, 15 D0, 16 GND, 17 D4, 18 D8, 19 D9, 20 D10, 21 D11, 22 D12, 23 D13, 24 D14, 25 D15, 26 RST, 27 D5, 28 D6, 29 D7
text: 2.8" Display

## LCD 3.2" ECA
designator LCD?  (value not drawn)
footprint LCD 3.2" A
footprint LCD 3.2" B
pins: 1 D8, 2 D7, 3 D6, 4 D5, 5 D4, 6 D3, 7 D2, 8 D1, 9 D0, 10 RST, 11 RD, 12 WR, 13 RS, 14 CS, 15 D9, 16 D10, 17 D11, 18 D12, 19 D13, 20 D14, 21 D15, 22 Y-, 23 X-, 24 Y+, 25 X+, 26 GND, 27 LEDA, 28 VCC

## LCD 64*128 KS0108
designator LCD?
footprint KS0108 Graphical LCD (-)
pins: 1 GND, 2 VDD, 3 VO, 4 RS, 5 RW, 6 E, 7 DB0, 8 DB1, 9 DB2, 10 DB3, 11 DB4, 12 DB5, 13 DB6, 14 DB7, 15 CSA, 16 CSB, 17 RST, 18 VOut, 19 BLA, 20 BLK
text: KS0108 LCD; R2T©

## LED
designator LED?  (value not drawn)
Designer :: Razi Research Team Of Mashhad - Hamed Jafarzadeh
footprint LED0603
footprint LED0805
footprint LED1206
pins: 1 A, 2 K

## LM2576HVS
designator U?, comment Manufacturer Part Number 1: LM2576HVS  (hidden comment: Adjustable)
Switching Voltage Regulator IC, TO-263-5 SMD, LM2591HVS-5.0; Manufacturer 1: National Semiconductor; Voltage Regulator Type: Switching Buck; Tolerance: ±4%; Ratings: 60Vin Max; 150kHz; Value: 5V; 1A; SCDType: source; Package / Case: TO-263-5; Supplier 1: Digi-Key; Supplier Part Number 1: LM2591HVS-5.0-ND
footprint TO-263-5 (D-PAK/TO-263-5; 5 Leads; Body 14.4 (inc. leads) x 10.4 mm (LxW max))
pins: 1 VIN (power), 2 OUTPUT (in), 3 GND (power), 4 FEEDBACK (power), 5 ~{ON}/OFF (in)

## MicroSD Card Connector
designator SD?  (value not drawn)
Designer:: Hamed Jafarzadeh - R2T.IR
footprint MicroSD Card Connector (JavanElec MicroSD Card Connector)
pins: 1 Reserved/DAT2, 2 ~{CS}          /DAT3, 3 Data IN  /CMD, 4 VDD (3v3), 5 SCLK    /CLK, 6 VSS (GND), 7 Data Out/DAT0, 8 Reserved/DAT1, 9 ~{DETECT}, 10 Shield ( GND )
text: MicroSD Connector; R2T.IR

## Microswitch
designator SW?
Desginer: Hamed Jafarzadeh ( R2T )
footprint Microswitch ultraminature
footprint Microswitch 5A
pins: 1 2, 2 1

## MicroSwitchRectangle
designator SW?
Desginer: Hamed Jafarzadeh ( R2T )
footprint MicroSwitchRectangle
pins: 1, 2, 3

## MiniMax DC-DC Convertor
designator U?  (value not drawn)
footprint MiniMax-MKW14Series
pins: 1 Vin+, 2 Vin-, 3 Remote On/OFF, 4 Vout+, 5 Vin-/Common, 6 Trim/Vin-

## MPR121
designator U?  (value not drawn)
Designer :: Razi Research Team ( R2T.IR )
footprint QFN 20pin (MPR121)
pins: 1 ~{IRQ}, 2 SCL, 3 SDA, 4 ADDR, 5 VREG, 6 VSS, 7 REXT, 8 ELE0 (io), 9 ELE1 (io), 10 ELE2 (io), 11 ELE3 (io), 12 ELE4/GPIO0 (io), 13 ELE5/GPIO1 (io), 14 ELE6/GPIO2 (io), 15 ELE7/GPIO3 (io), 16 ELE8/GPIO4 (io), 17 ELE9/GPIO5 (io), 18 ELE10/GPIO6 (io), 19 ELE11/GPIO6 (io), 20 VDD
text: R2T.IR

## MPR121A
designator *

## Mpu6050
designator U?
Designer: Hamed Jafarzadeh - R2T - MashhadRobotic.ir
footprint Mpu6050 (QFN, 24-Leads, Body 4.1x4.1mm (max), Pitch 0.50mm, IPC Medium Density)
pins: 1 CLKIN<>GND, 2 NC, 3 NC, 4 NC, 5 NC, 6 AUC_DA, 7 AUX_CL, 8 VLOGIC, 9 AD0 (in), 10 REGOUT, 11 FSYNC<>GND, 12 INT (out), 13 VDD, 14 NC, 15 NC, 16 NC, 17 NC, 18 GND, 19 NC, 20 CPOUT, 21 NC, 22 CLKOUT, 23 SCL (io), 24 SDA (io)

## MPU9250
designator U?, comment Mpu9250
Nine Axis IMU; Designer:: Hamed Jafarzadeh
footprint MPU9250 (QFN, 24-Leads, Body 3.00x3.00mm, Pitch 0.40mm, IPC Medium Density)
pins: 1 RESRV/VDDIO, 2 NC, 3 NC, 4 NC, 5 NC, 6 NC, 7 AUX_CL, 8 VDDIO, 9 AD0/SDO (in), 10 REGOUT, 11 FSYNC<>GND, 12 INT (out), 13 VDD, 14 NC, 15 NC, 16 NC, 17 NC, 18 GND, 19 NC, 20 GND, 21 AUXDA, 22 ~{CS}, 23 SCL/SCLK (io), 24 SDA/SDI (io)
text: WWW.R2T.IR

## NAND Memory
designator U?
footprint Samsung K9F2G08U0C (Nand 2Gigbit Flash)
pins: 7 ~{RB}, 8 ~{RE}, 9 ~{CE}, 12 VDD, 13 VSS, 16 CLE, 17 ALE, 18 ~{WE}, 19 ~{WP}, 29 I/O 0, 30 I/O 1, 31 I/O 2, 32 I/O 3, 36 VSS, 37 VDD, 41 I/O 4, 42 I/O 5, 43 I/O 6, 44 I/O 7
text: H.Jafarzadeh

## NMOS
designator Q?
STD60NFL - N Mosfet - STMicroelectronic - 60A; Designer:: R2T <> Hamed Jafarzadeh <> www.MashhadRobotic.ir
footprint STD60NF3LL (D-PAK, 3-Pads, Body 6.2x6.6mm (max), IPC Medium Density)
footprint TO-126
footprint TO-127 Bend Lead (TO-127 Bend Lead , Suitable for Power Hexfet Mosfets)
footprint TO-247
footprint TO220-AB-Bend IL
footprint TO220-AB-Bend L
footprint TO220-AB-Stand
pins: 1 G, 2 D, 3 S

## NRF24L01+_Module
designator NRF?
Designer:: HamedJafarzadeh
footprint NRF24L01+_Module
footprint NRF24L01+_Module-LNA+PA
footprint NRF24L01P_SMD
pins: 1 GND, 2 VCC, 3 CE, 4 CSN , 5 SCK, 6 MOSI, 7 MISO, 8 IRQ
text: NRF24L01+; R2T Team

## NRF51822-02
designator U?, comment NRF51-02
footprint NRF51822-02
pins: 1 VCC, 2 P0.30, 3 P0.0/AREF, 4 P0.01, 5 P0.02, 6 P0.03, 7 P0.04, 8 P0.05, 9 P0.06, 10 P0.07, 11 GND, 12 P0.8, 13 P0.9, 14 P0.10, 15 P0.11, 16 P0.12, 17 P0.13, 18 P0.14, 19 P0.15, 20 P0.16, 21 SWDIO/RST, 22 SWDCLK, 23 P0.17, 24 P0.18, 25 P0.19, 26 P0.20, 27 GND, 28 ANT/GND, 29 GND, 30 GND, 31 GND, 32 P0.21, 33 P0.22, 34 P0.23, 35 P0.24, 36 P0.25, 37 P0.26, 38 P0.27, 39 P0.28, 40 P0.29

## NTC
designator tR?  (value not drawn)
Designer: HamedJafarzadeh
footprint NTC Radial 5
pins: 1, 2
text: -t

## OSCILLATOR
designator Osc?  (value not drawn)
footprint SMD OSCILLATOR 5x7
pins: 1 NC/Tri-state, 2 GND, 3 Output, 4 VDD

## PNP Transistor
designator Q?, comment BD140
footprint TO-126
pins: 1 Emitter, 2 Collector, 3 Base

## PowerSwitching
designator U?  (value not drawn)
footprint PowerSwitching
footprint PowerSwitching-Sabz
pins: 1 L, 2 N, 3 GND, 4 VCC
text: SwitchingPower; AC-DC

## PowerVia
designator PW?
footprint PowerVia 2*2
footprint PowerVia 2*3
footprint PowerVia 9pin
footprint PowerVia2*5
footprint PowerVia2*6

## PT2262
designator U?
footprint DIP18
pins: 1 A0, 2 A1, 3 A2, 4 A3, 5 A4, 6 A5, 7 A6/D5, 8 A7/D4, 9 GND, 10 A8/D3, 11 A9/D2, 12 A10/D1, 13 A11/D0, 14 ~{TE}, 15 OSC, 16 OSC, 17 DO, 18 VCC

## PT2272
designator U?
footprint DIP18
pins: 1 A0, 2 A1, 3 A2, 4 A3, 5 A4, 6 A5, 7 A6, 8 A7, 9 GND, 10 D3, 11 D2, 12 D1, 13 D0, 14 DATA, 15 OSC, 16 OSC, 17 VT, 18 VCC

## PTC
designator T?  (value not drawn)
Designer: Hamed Jafarzadeh
footprint PTC Radial 5mm
pins: 1, 2
text: +t

## R2T-MiniSerial
designator SWD?
footprint SerialWireMini
pins: 1 RXD (in), 2 GND, 3 TXD (out), 4 SupplyVCC (io)
text: R2T; Serial Link

## R2T-MpuModule
designator Mpu?
Caution: It is specially design for our MpuModule - 09362688949; Designer: Hamed Jafarzadeh-WWW.R2T.IR
footprint R2T-MpuModule
pins: 1 VCC (oc), 2 GND (oc), 3 SDA (io), 4 SCL (io), 5 INIT (out)
text: R2T; Mpu6050; Module

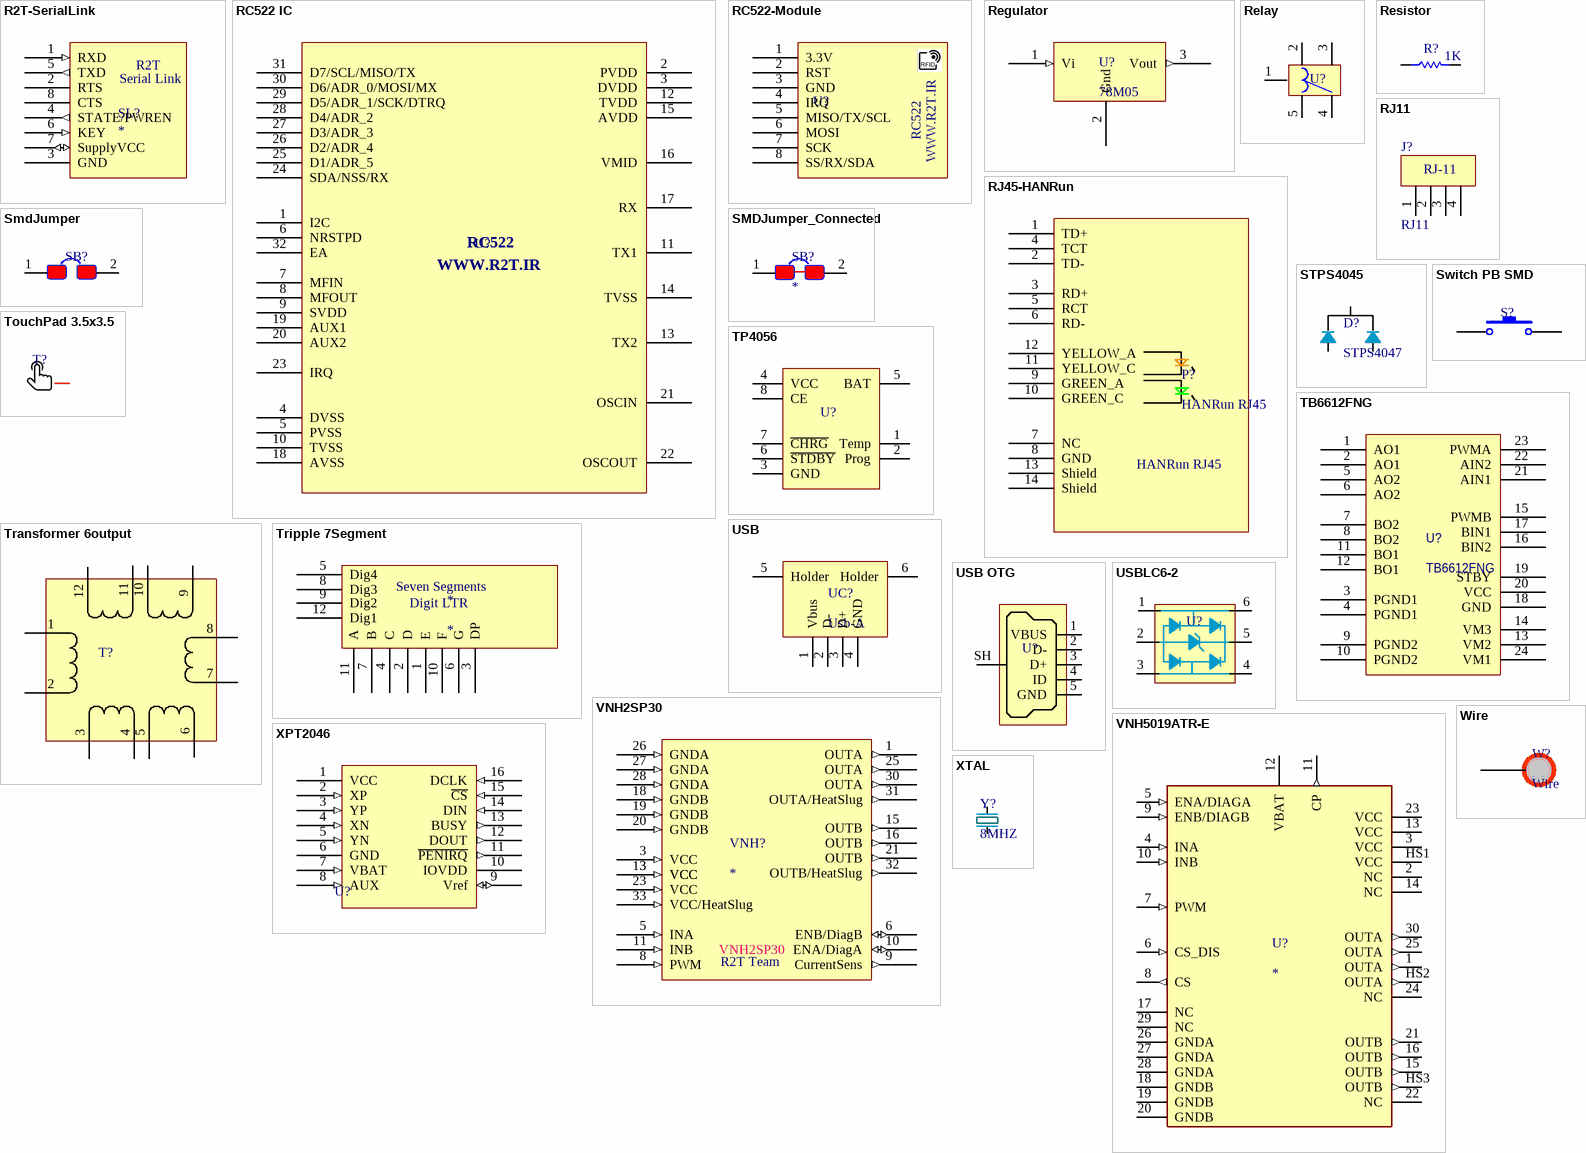
[diagram p3: symbols R2T-SerialLink to XTAL]

## R2T-SerialLink
designator SL?
Caution: It is specially design for our Serial Wireless link - 09362688949; Designer: Hamed Jafarzadeh-WWW.R2T.IR
footprint Bluetooth Serial
footprint Wired Serial
pins: 1 RXD (in), 2 RTS, 3 GND, 4 STATE/PWREN (out), 5 TXD (out), 6 KEY (in), 7 SupplyVCC (io), 8 CTS
text: R2T; Serial Link

## RC522 IC
designator U?  (value not drawn)
footprint RC522-IC
pins: 1 I2C, 2 PVDD, 3 DVDD, 4 DVSS, 5 PVSS, 6 NRSTPD, 7 MFIN, 8 MFOUT, 9 SVDD, 10 TVSS, 11 TX1, 12 TVDD, 13 TX2, 14 TVSS, 15 AVDD, 16 VMID, 17 RX, 18 AVSS, 19 AUX1, 20 AUX2, 21 OSCIN, 22 OSCOUT, 23 IRQ, 24 SDA/NSS/RX, 25 D1/ADR_5, 26 D2/ADR_4, 27 D3/ADR_3, 28 D4/ADR_2, 29 D5/ADR_1/SCK/DTRQ, 30 D6/ADR_0/MOSI/MX, 31 D7/SCL/MISO/TX, 32 EA
text: RC522; WWW.R2T.IR

## RC522-Module
designator U?  (value not drawn)
footprint RC522-Module
pins: 1 3.3V, 2 RST, 3 GND, 4 IRQ, 5 MISO/TX/SCL, 6 MOSI, 7 SCK, 8 SS/RX/SDA
text: RC522; WWW.R2T.IR

## Regulator
designator U?, comment 78M05
footprint DPAK228P972X240-3N (D-PAK, 3-Pads, Body 6.20x6.66mm (max), IPC Medium Density)
footprint TO220-AB-Bend IL
footprint TO220-AB-Bend L
footprint TO220-AB-Stand
footprint HT7533-2 (SOT89, 3-Leads, Body 4.49x2.45mm, Pitch 1.50mm, Lead Span 4.1mm, IPC Medium Density)
footprint XC6206 (SOT23, 3-Leads, Body 3.00x2.80mm, Pitch 0.95mm, IPC Medium Density)
pins: 1 Vi (in), 2 Gnd, 3 Vout (out)

## Relay
designator U?  (value not drawn)
footprint Relay-HJR-3FF
footprint NT90TNCE12CB
pins: 1, 2, 3, 4, 5

## Resistor
designator R?, comment 1K
Resistor; Tolerance: 5%; Power: 1/8 W; Value: 1K
footprint Res-(1/8)
footprint Res-(1/4)
footprint Res-(1/2)
footprint Res-(1/1)
footprint Res-(2/1)
footprint RES 0201 (0603X03L) (Chip Resistor, 2-Leads, Body 0.6x0.3mm, IPC High Density (0.05 W))
footprint RES 0402 (1005X04L) (Chip Resistor, 2-Leads, Body 1.0x0.5mm, IPC High Density _ (0.031/0.063 W))
footprint RES 0603 (1608X06L) (Chip Resistor, 2-Leads, Body 1.6x0.8mm, IPC High Density _ (0.063W))
footprint RES 0805 (2012X06L) (Chip Resistor, 2-Leads, Body 2.0x1.3mm, IPC High Density _ (0.100 W))
footprint RES 1206 (3216X08L) (Chip Resistor, 2-Leads, Body 3.2x1.6mm, IPC High Density _ (0.125 W))
footprint RES 1210 (3226X07L) (Chip Resistor, 2-Leads, Body 3.2x2.6mm, IPC High Density _ (0.250 W))
footprint RES 1217 (3042X09L) (Chip Resistor, 2-Leads, Body 3.0x4.2mm, IPC High Density _ (0.250 W))
footprint RES 2010 (5026X08L) (Chip Resistor, 2-Leads, Body 5.0x2.6mm, IPC High Density _ (0.250 W))
footprint RES 2020 (5151X09L) (Chip Resistor, 2-Leads, Body 5.1x5.1mm, IPC High Density _ (0.5 W))
footprint RES 2045 (50115X09L) (Chip Resistor, 2-Leads, Body 5.0x11.5mm, IPC High Density _ (1.0 W))
footprint RES 2512 (6331X07L) (Chip Resistor, 2-Leads, Body 6.3x3.1mm, IPC High Density _ (0.500 W))
footprint Res-(1/4)-Stand
footprint Res-(5/1)-Stand
pins: 1, 2

## RJ11
designator J?
footprint RJ11
pins: 1, 2, 3, 4
text: RJ-11

## RJ45-HANRun
designator P?, comment HANRun RJ45
footprint HANRun RJ45
pins: 1 TD+, 2 TD-, 3 RD+, 4 TCT, 5 RCT, 6 RD-, 7 NC, 8 GND, 9 GREEN_A, 10 GREEN_C, 11 YELLOW_C, 12 YELLOW_A, 13 Shield, 14 Shield

## SmdJumper
designator SB?  (value not drawn)
footprint SMD Jumper
pins: 1, 2

## SMDJumper_Connected
designator SB?
footprint SMDJumper_Connected
pins: 1, 2

## STPS4045
designator D?, comment STPS4047
Designer:: Hamed Jafarzadeh
footprint TO-247 Bend Lead (TO-127 Bend Lead , Suitable for Power Hexfet Mosfets)
footprint TO-247
pins: 1, 2, 3 A1

## Switch PB SMD
designator S?  (value not drawn)
footprint Switch PB SMD
footprint smdSwitch
pins: 1, 2

## TB6612FNG
designator U?
footprint TB6612FNG (SOP127P600-8N)
pins: 1 AO1, 2 AO1, 3 PGND1, 4 PGND1, 5 AO2, 6 AO2, 7 BO2, 8 BO2, 9 PGND2, 10 PGND2, 11 BO1, 12 BO1, 13 VM2, 14 VM3, 15 PWMB, 16 BIN2, 17 BIN1, 18 GND, 19 STBY, 20 VCC, 21 AIN1, 22 AIN2, 23 PWMA, 24 VM1

## TouchPad 3.5x3.5
designator T?  (value not drawn)
Designer: Hamed Jafarzadeh - R2T.ir
footprint TouchPad 3.5x3.5
pins: 0

## TP4056
designator U?  (value not drawn)
footprint TP9056/4056
pins: 1 Temp, 2 Prog, 3 GND, 4 VCC, 5 BAT, 6 ~{STDBY}, 7 ~{CHRG}, 8 CE

## Transformer 6output
designator T?  (value not drawn)
footprint Transformer 6 output
footprint Transformer 6 Output Laydown
pins: 1, 2, 3, 4, 5, 6, 7, 8, 9, 10, 11, 12

## Tripple 7Segment
designator *
footprint Tripple 7Segment
footprint Quad 7Segment
pins: 1 E, 2 D, 3 DP, 4 C, 5 Dig4, 6 G, 7 B, 8 Dig3, 9 Dig2, 10 F, 11 A, 12 Dig1
text: Seven Segments; Digit LTR

## USB
designator UC?, comment Usb-A
Designer :: HamedJafarzadeh
footprint USB A Connector
footprint USB2.5-2H4 (Connector; USB1.1, Series A, Reverse Type, Thru-Hole; 4 Position; Right Angle)
pins: 1 Vbus, 2 D-, 3 D+, 4 GND, 5 Holder, 6 Holder

## USB OTG
designator U?  (value not drawn)
Designer:: Hamed Jafarzadeh
footprint USB_Micro-B_FCI_SMD
footprint USB_Micro-B_Molex_SMD
footprint USB_Micro
pins: 1 VBUS, 2 D-, 3 D+, 4 ID, 5 GND, SH Shell

## USBLC6-2
designator U?  (value not drawn)
Very low capacitance ESD protection;2 data lines protection,Very low capacitance: 3.5 pF max,Protects VBU; Designer: Hamed Jafarzadeh
footprint USBLC6-2 (USB ESD Protectection)
pins: 1 0, 2 0, 3 0, 4 0, 5 0, 6 IO

## VNH2SP30
designator VNH?
30Amper Fully H-Bridge Motor Driver
footprint MultiPowerSO-30 Test
pins: 1 OUTA (out), 3 VCC (in), 3 VCC (in), 5 INA (in), 6 ENB/DiagB (io), 8 PWM (in), 9 CurrentSens (out), 10 ENA/DiagA (io), 11 INB (in), 13 VCC (in), 15 OUTB (out), 16 OUTB (out), 18 GNDB (in), 19 GNDB (in), 20 GNDB (in), 21 OUTB (out), 23 VCC (in), 25 OUTA (out), 26 GNDA (in), 27 GNDA (in), 28 GNDA (in), 30 OUTA (out), 31 OUTA/HeatSlug (out), 32 OUTB/HeatSlug (out), 33 VCC/HeatSlug (in)
text: R2T Team

## VNH5019ATR-E
designator U?
Full Bridge Based Peripheral Driver; MP: VNH5019ATR-E; MF: STMicroelectronics; Availability: Unavailable; Price: None; Value: *; SnapEDA_Link: https://www.snapeda.com/parts/VNH5019ATR-E/STMicroelectronics/view-part/423747/?ref=snap; Package: SOP-30 STMicroelectronics; Supplier 1: Arrow Electronics; Manufacturer: STMicroelectronics; Manufacturer Part Number: VNH5019ATR-E; RoHS: Yes; Category: Motor Drivers; Stock 1: 53000; Pricing 1: 1000=5.6215 (USD); Interface IC Type: FULL BRIDGE BASED PERIPHERAL DRIVER; Reach SVHC Compliant: No; RoHS Compliant: Yes; ComponentLink1URL: https://datasheet.ciiva.com:443/pdfs/VipMasterIC/IC/SGST/SGST-S-A0003208391/SGST-S-A0003208391-1.pdf?src-supplier=IHS+Markit; ComponentLink1Description: https://datasheet.ciiva.com:443/pdfs/VipMasterIC/IC/SGST/SGST-S-A0003208391/SGST-S-A0003208391-1.pdf?src-supplier=IHS+Markit; ComponentLink2URL: https://datasheet.ciiva.com/41458/001184790-da-01-en-ic-motor-driver-vnh5019atr-e-sop-30-stm-41458149.pdf?src-supplier=Conrad; ComponentLink2Description: https://datasheet.ciiva.com/41458/001184790-da-01-en-ic-motor-driver-vnh5019atr-e-sop-30-stm-41458149.pdf?src-supplier=Conrad; ComponentLink3URL: https://datasheet.ciiva.com/6607/cd00234623-6607941.pdf?src-supplier=Digikey; ComponentLink3Description: https://datasheet.ciiva.com/6607/cd00234623-6607941.pdf?src-supplier=Digikey; ComponentLink4URL: https://datasheet.ciiva.com/6607/cd00234623-6607942.pdf?src-supplier=Digikey; ComponentLink4Description: https://datasheet.ciiva.com/6607/cd00234623-6607942.pdf?src-supplier=Digikey; ComponentLink5URL: https://datasheet.ciiva.com/12216/cd00234623-12216232.pdf?src-supplier=Mouser; ComponentLink5Description: https://datasheet.ciiva.com/12216/cd00234623-12216232.pdf?src-supplier=Mouser; Supplier Part Number 1: VNH5019ATR-E
footprint VNH5019ATR-E
pins: 1 OUTA (out), 2 NC (power), 3 VCC (power), 4 INA (in), 5 ENA/DIAGA (in), 6 CS_DIS (in), 7 PWM (in), 8 CS (out), 9 ENB/DIAGB (in), 10 INB (in), 11 CP (out), 12 VBAT (power), 13 VCC (power), 14 NC (power), 15 OUTB (out), 16 OUTB (out), 17 NC (power), 18 GNDB (power), 19 GNDB (power), 20 GNDB (power), 21 OUTB (out), 22 NC (power), 23 VCC (power), 24 NC (power), 25 OUTA (out), 26 GNDA (power), 27 GNDA (power), 28 GNDA (power), 29 NC (power), 30 OUTA (out), HS1 VCC (power), HS2 OUTA (out), HS3 OUTB (out)

## Wire
designator W?
Designer:: Hamed Jafarzadeh
footprint Wire-2.5mm (12AWG)
footprint Wire-3mm (10AWG)
pins: 1

## XPT2046
designator U?  (value not drawn)
Touch Screen Controller
footprint SOP64P600X175-16N (SOP, 16-Leads, Body 4.90x3.90mm, Pitch 0.64mm, IPC Medium Density)
pins: 1 VCC (power), 2 XP (in), 3 YP (in), 4 XN (in), 5 YN (in), 6 GND (power), 7 VBAT (in), 8 AUX (in), 9 Vref (io), 10 IOVDD (power), 11 ~{PENIRQ} (out), 12 DOUT (out), 13 BUSY (out), 14 DIN (in), 15 ~{CS} (in), 16 DCLK (in)

## XTAL
designator Y?, comment 8MHZ
Designer :: Hamed Jafarzadeh; WebSite:: FarhooshCo
footprint RTC XTAL
footprint XTAL Small
footprint XTAL SMD
pins: 1, 2